# Altium footprint library PCB - CAPACITOR - ELECTROLYTIC - C4AQQBW5400A3NJ.PCBLIB: 1 footprints
Each footprint in its own frame and in the unit in brackets; x right, y up, seen from the top. Pads: shape width x height; smd on the part's side, far side on the other; paste and mask are expansions set on the pad; w line width, h text height; cw(c..) or ccw(c..) is an arc to the next point about the centre after c.
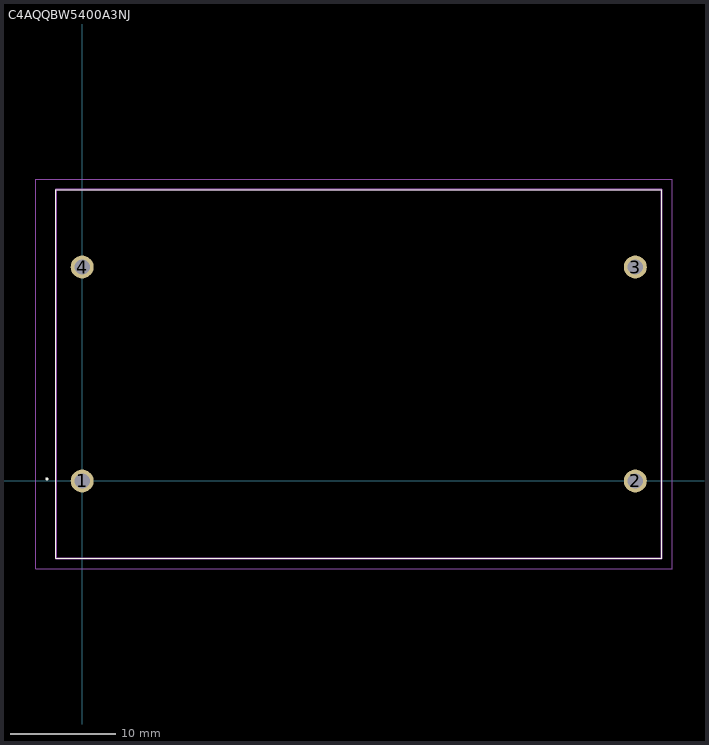
[diagram p0: the footprint, top view; thin cyan lines are the x and y axes]

## C4AQQBW5400A3NJ [mm]
pads (4):
  round 2.175 hole 1.45: 1(0,0) 2(52.5,0) 3(52.5,20.3) 4(0,20.3)
Top Overlay:
  lines w0.1: -2.5,-7.35 -2.5,27.65 55,27.65 55,-7.35 -2.5,-7.35
  lines w0.2: -3.4,0.2 ccw(c-3.35,0.2) -3.3,0.2 ; -3.4,0.2 cw(c-3.35,0.2) -3.3,0.2 ; -3.4,0.2 ccw(c-3.35,0.2) -3.3,0.2
Top Assembly:
  lines w0.2: -2.5,-7.35 55,-7.35 55,27.65 -2.5,27.65 -2.5,-7.35
Top Courtyard:
  lines w0.1: -4.4,-8.35 56,-8.35 56,28.65 -4.4,28.65 -4.4,-8.35
Top Designator:
  text ".Designator" at -4.318,32.131 h1
Top Value (Mech13):
  text ".Comment" at -4.318,30.48 h1
3D body "C4AQQBW5400A3NJ.stp": height 50.3, standoff -5, extent -2.5,-7.35 55,27.65